# Altium schematic symbol library SER2010-122MX.Schlib: 1 symbol
Pins are listed as number, name and electrical type; pins without a type are passive.

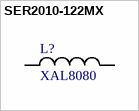
[diagram p0: symbol SER2010-122MX]

## SER2010-122MX
designator L?, comment XAL8080
Inductor
pins: 1, 2